# Altium footprint library LED_RGB.PcbLib: 1 footprints
Each footprint in its own frame and in the unit in brackets; x right, y up, seen from the top. Pads: shape width x height; smd on the part's side, far side on the other; paste and mask are expansions set on the pad; w line width, h text height; cw(c..) or ccw(c..) is an arc to the next point about the centre after c.
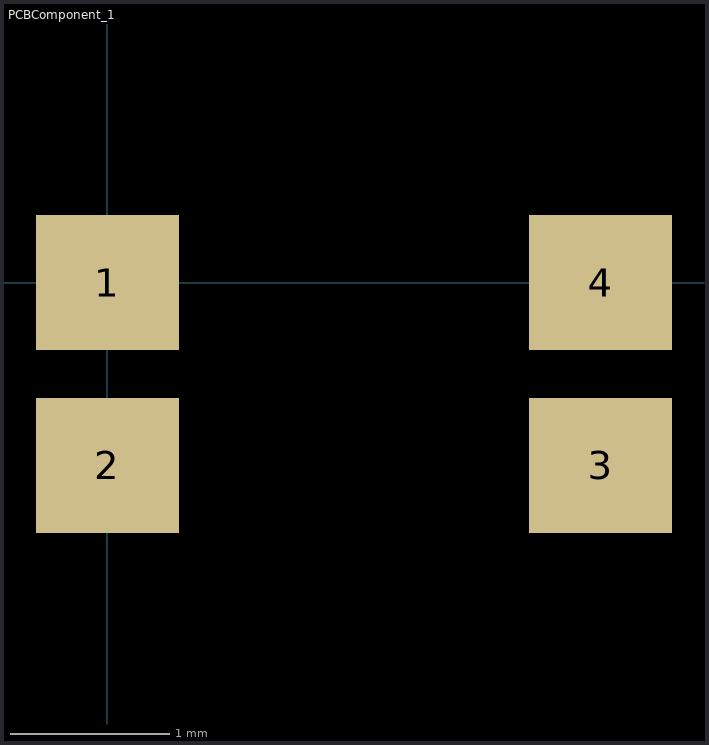
[diagram p0: the footprint, top view; thin cyan lines are the x and y axes]

## PCBComponent_1 [mm]
pads (4):
  rect 0.9x0.85 smd: 1(0,0) 2(0,-1.15) 3(3.1,-1.15) 4(3.1,0)
3D body: height 0.8, standoff 0, extent 0.883,-1.193 2.094,0.006
3D body: height 0.28, standoff 0, extent -0.03,-1.233 3.145,0.037